# EAGLE library part M38C/2X(64PIN) (library renesas_mcu)
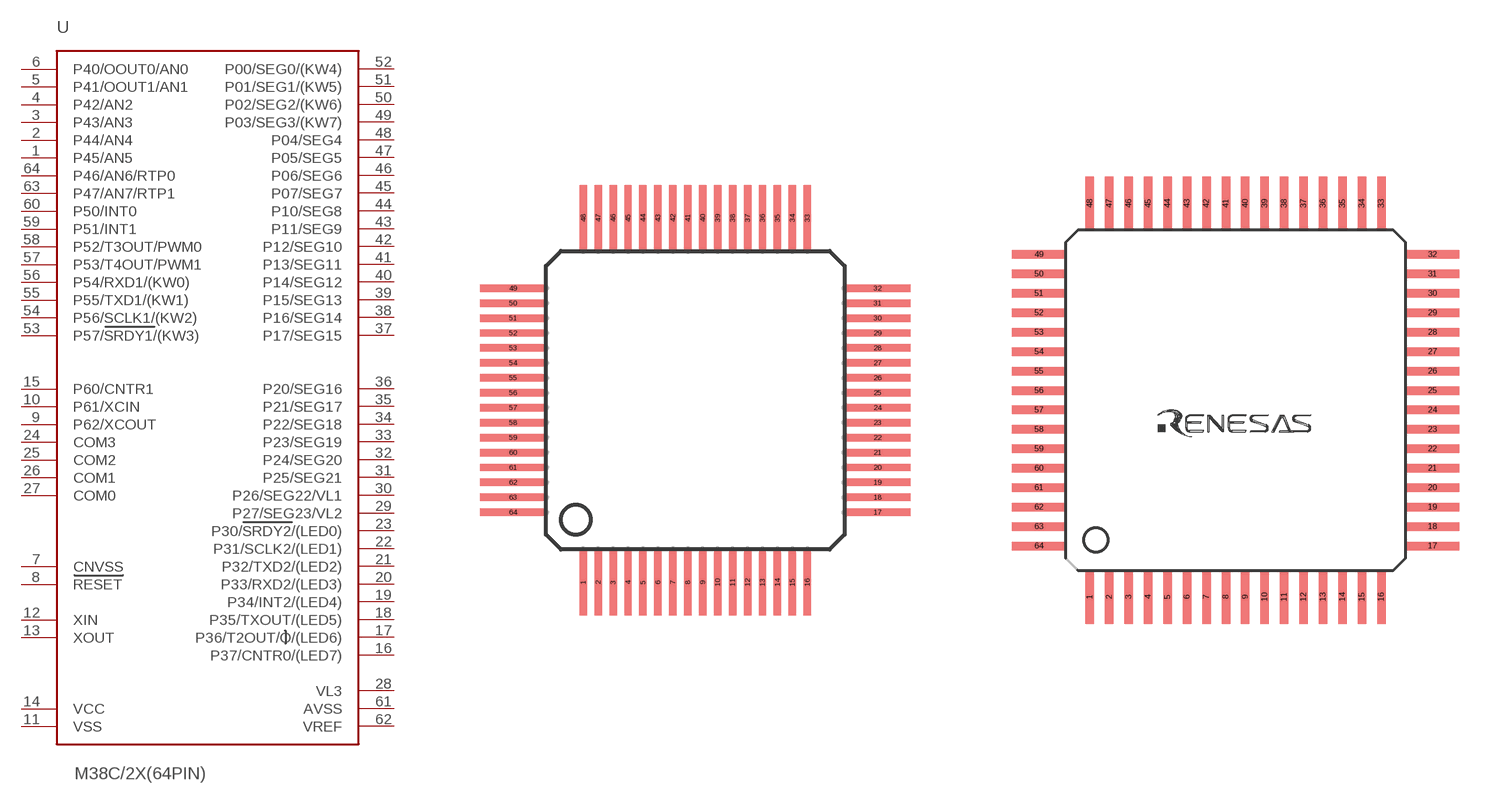
[diagram p18: symbol with the pads of 64P6Q-A; footprints 64P6Q-A, 64P6U-A]

Designator prefix -

## M38C/2X(64PIN)64P6Q-A  [64P6Q-A]
1  P45/AN5
2  P44/AN4
3  P43/AN3
4  P42/AN2
5  P41/OOUT1/AN1
6  P40/OOUT0/AN0
7  CNVSS  in
8  RESET  in
9  P62/XCOUT
10  P61/XCIN
11  VSS  pwr
12  XIN
13  XOUT  out
14  VCC  pwr
15  P60/CNTR1
16  P37/CNTR0/(LED7)
17  P36/T2OUT/O/(LED6)
18  P35/TXOUT/(LED5)
19  P34/INT2/(LED4)
20  P33/RXD2/(LED3)
21  P32/TXD2/(LED2)
22  P31/SCLK2/(LED1)
23  P30/SRDY2/(LED0)
24  COM3  out
25  COM2  out
26  COM1  out
27  COM0  out
28  VL3  in
29  P27/SEG23/VL2
30  P26/SEG22/VL1
31  P25/SEG21
32  P24/SEG20
33  P23/SEG19
34  P22/SEG18
35  P21/SEG17
36  P20/SEG16
37  P17/SEG15
38  P16/SEG14
39  P15/SEG13
40  P14/SEG12
41  P13/SEG11
42  P12/SEG10
43  P11/SEG9
44  P10/SEG8
45  P07/SEG7
46  P06/SEG6
47  P05/SEG5
48  P04/SEG4
49  P03/SEG3/(KW7)
50  P02/SEG2/(KW6)
51  P01/SEG1/(KW5)
52  P00/SEG0/(KW4)
53  P57/SRDY1/(KW3)
54  P56/SCLK1/(KW2)
55  P55/TXD1/(KW1)
56  P54/RXD1/(KW0)
57  P53/T4OUT/PWM1
58  P52/T3OUT/PWM0
59  P51/INT1
60  P50/INT0
61  AVSS  in
62  VREF  in
63  P47/AN7/RTP1
64  P46/AN6/RTP0

## M38C/2X(64PIN)64P6U-A  [64P6U-A]
Pads as for 64P6Q-A

## Footprint 64P6Q-A (pad centres in mm)
smd 0.25 x 2.2: 1 -3.75,-6.1; 2 -3.25,-6.1; 3 -2.75,-6.1; 4 -2.25,-6.1; 5 -1.75,-6.1; 6 -1.25,-6.1; 7 -0.75,-6.1; 8 -0.25,-6.1; 9 0.25,-6.1; 10 0.75,-6.1; 11 1.25,-6.1; 12 1.75,-6.1; 13 2.25,-6.1; 14 2.75,-6.1; 15 3.25,-6.1; 16 3.75,-6.1; 33 3.75,6.1; 34 3.25,6.1; 35 2.75,6.1; 36 2.25,6.1; 37 1.75,6.1; 38 1.25,6.1; 39 0.75,6.1; 40 0.25,6.1; 41 -0.25,6.1; 42 -0.75,6.1; 43 -1.25,6.1; 44 -1.75,6.1; 45 -2.25,6.1; 46 -2.75,6.1; 47 -3.25,6.1; 48 -3.75,6.1
smd 2.2 x 0.25: 17 6.1,-3.75; 18 6.1,-3.25; 19 6.1,-2.75; 20 6.1,-2.25; 21 6.1,-1.75; 22 6.1,-1.25; 23 6.1,-0.75; 24 6.1,-0.25; 25 6.1,0.25; 26 6.1,0.75; 27 6.1,1.25; 28 6.1,1.75; 29 6.1,2.25; 30 6.1,2.75; 31 6.1,3.25; 32 6.1,3.75; 49 -6.1,3.75; 50 -6.1,3.25; 51 -6.1,2.75; 52 -6.1,2.25; 53 -6.1,1.75; 54 -6.1,1.25; 55 -6.1,0.75; 56 -6.1,0.25; 57 -6.1,-0.25; 58 -6.1,-0.75; 59 -6.1,-1.25; 60 -6.1,-1.75; 61 -6.1,-2.25; 62 -6.1,-2.75; 63 -6.1,-3.25; 64 -6.1,-3.75

## Footprint 64P6U-A (pad centres in mm)
smd 0.35 x 2.2: 1 -6,-8.1; 2 -5.2,-8.1; 3 -4.4,-8.1; 4 -3.6,-8.1; 5 -2.8,-8.1; 6 -2,-8.1; 7 -1.2,-8.1; 8 -0.4,-8.1; 9 0.4,-8.1; 10 1.2,-8.1; 11 2,-8.1; 12 2.8,-8.1; 13 3.6,-8.1; 14 4.4,-8.1; 15 5.2,-8.1; 16 6,-8.1; 33 6,8.1; 34 5.2,8.1; 35 4.4,8.1; 36 3.6,8.1; 37 2.8,8.1; 38 2,8.1; 39 1.2,8.1; 40 0.4,8.1; 41 -0.4,8.1; 42 -1.2,8.1; 43 -2,8.1; 44 -2.8,8.1; 45 -3.6,8.1; 46 -4.4,8.1; 47 -5.2,8.1; 48 -6,8.1
smd 2.2 x 0.35: 17 8.1,-6; 18 8.1,-5.2; 19 8.1,-4.4; 20 8.1,-3.6; 21 8.1,-2.8; 22 8.1,-2; 23 8.1,-1.2; 24 8.1,-0.4; 25 8.1,0.4; 26 8.1,1.2; 27 8.1,2; 28 8.1,2.8; 29 8.1,3.6; 30 8.1,4.4; 31 8.1,5.2; 32 8.1,6; 49 -8.1,6; 50 -8.1,5.2; 51 -8.1,4.4; 52 -8.1,3.6; 53 -8.1,2.8; 54 -8.1,2; 55 -8.1,1.2; 56 -8.1,0.4; 57 -8.1,-0.4; 58 -8.1,-1.2; 59 -8.1,-2; 60 -8.1,-2.8; 61 -8.1,-3.6; 62 -8.1,-4.4; 63 -8.1,-5.2; 64 -8.1,-6